# Altium schematic symbol library Maxim Amplifiers and Comparators.SchLib: 420 symbols (part 15 of 16)
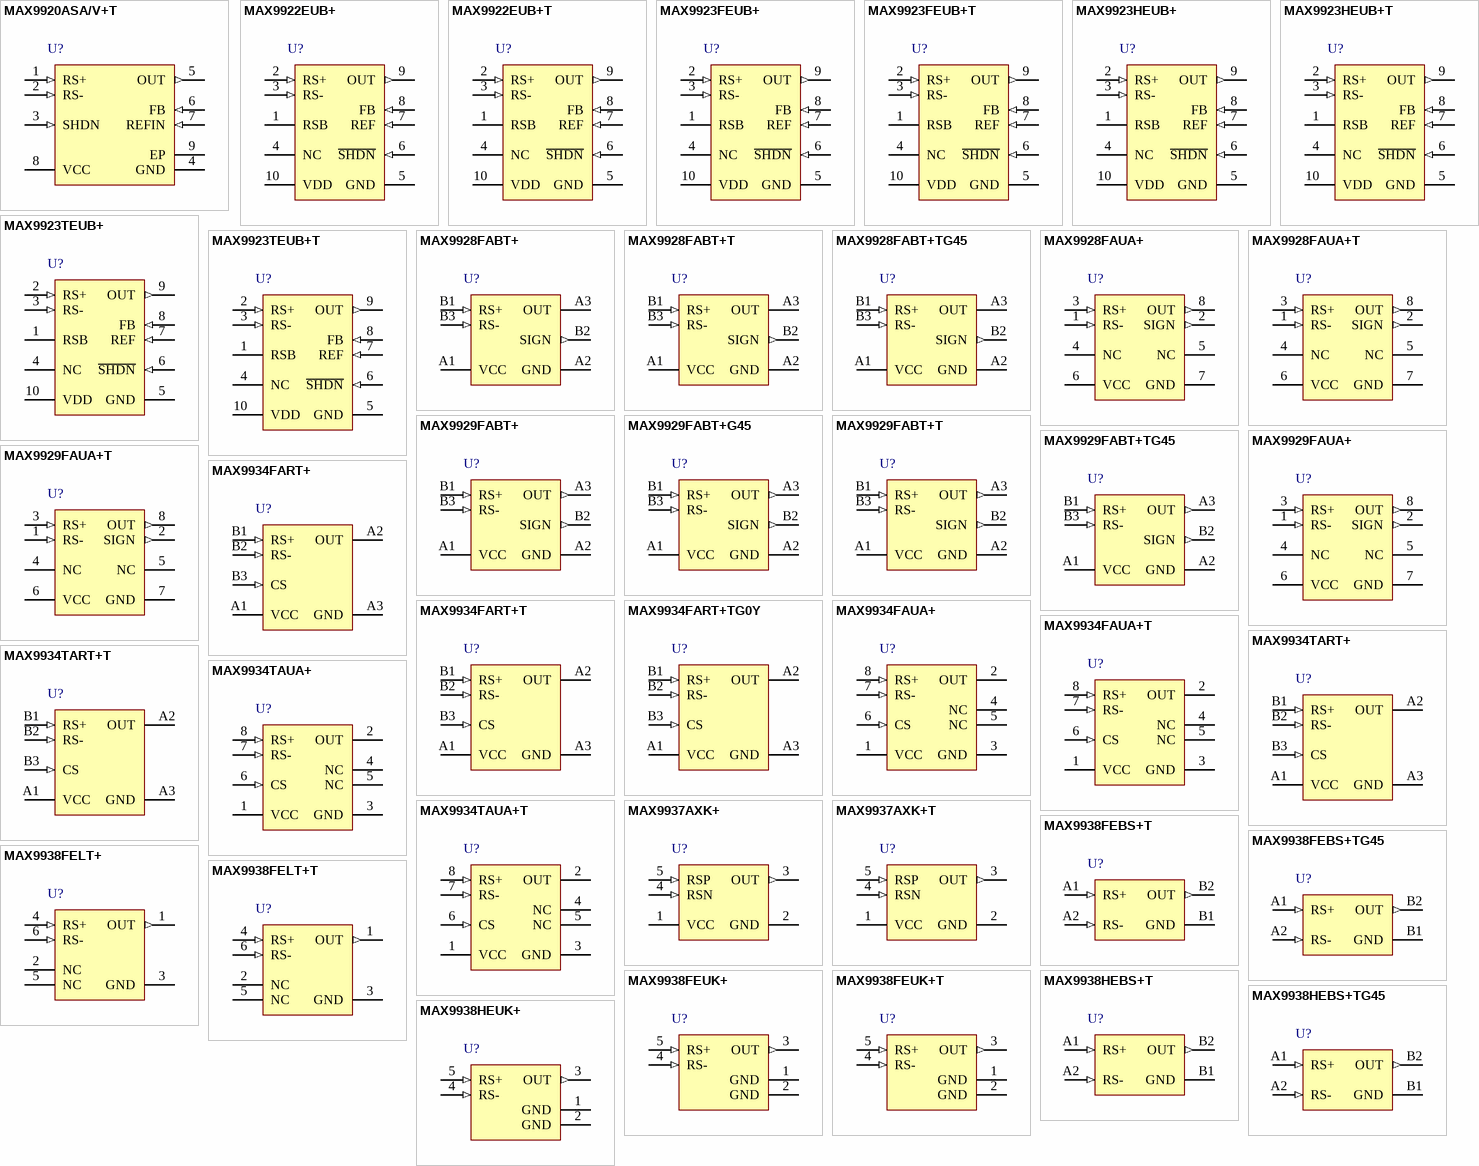
[diagram p24: symbols MAX9920ASA/V+T to MAX9938HEUK+]

## MAX9928FABT+
designator U?
-0.1 to 28 V Input Range, Micropower, Uni- / Bidirectional, Current-Sense Amplifier with Current Output, 5 uA / mV Gain, -40 to 125 degC, 6-Pin BGA (B6+1), Pb-Free, Tape and Reel; PartNumber: MAX9928FABT+; Bi-Dir. Curr. Sense: Yes; Gain: 5 uA/mV; DatasheetVersion: Rev. 3; PackageVersion: Rev. H, 09/2009; PackageReference: B6+1; PackageDescription: 6-Pin Ultra Chip-Scale Package, Body 1 x 1.52 mm, Pitch 0.5 mm; Supplier 1: Mouser; Supplier Part Number 1: N/A; Mounting Technology: Surface Mount; ComponentLink1Description: Manufacturer URL; ComponentLink1URL: http://www.maximintegrated.com/; ComponentLink2Description: Datasheet; ComponentLink2URL: http://datasheets.maximintegrated.com/en/ds/MAX9928F-MAX9929F.pdf; ComponentLink3Description: Package Specification; ComponentLink3URL: http://pdfserv.maximintegrated.com/package_dwgs/21-0097.PDF
footprint MAXM-B6+1 (BGA, 6-Balls, Body 1.52x1mm, Pitch 0.5mm)
pins: A1 VCC (power) "Supply Voltage Input. Bypass to GND with a 0.1uF capacitor.", A2 GND (power) "Circuit Ground", A3 OUT (hiz) "Current-Sense Output. MAX9928: Current output (IOUT is proportional to |VSENSE|). MAX9929: Voltage output (VOUT is proportional to |VSENSE|).", B1 RS+ (in) "Positive Current-Sense Input. Power-side connection to the external sense resistor.", B2 SIGN (out) "SIGN Output. Indicates polarity of VSENSE. SIGN = H indicates VRS+ > VRS-, SIGN = L indicates VRS+ < VRS-", B3 RS- (in) "Negative Current-Sense Input. Load-side connection for the external sense resistor."

## MAX9928FABT+T
designator U?
-0.1 to 28 V Input Range, Micropower, Uni- / Bidirectional, Current-Sense Amplifier with Current Output, 5 uA / mV Gain, -40 to 125 degC, 6-Pin BGA (B6+1), Pb-Free, Tape and Reel; PartNumber: MAX9928FABT+T; Bi-Dir. Curr. Sense: Yes; Gain: 5 uA/mV; DatasheetVersion: Rev. 3; PackageVersion: Rev. H, 09/2009; PackageReference: B6+1; PackageDescription: 6-Pin Ultra Chip-Scale Package, Body 1 x 1.52 mm, Pitch 0.5 mm; Supplier 1: Digi-Key; Supplier Part Number 1: MAX9928FABT+T-ND; Supplier 2: Mouser; Supplier Part Number 2: 700-MAX9928FABT+T; Mounting Technology: Surface Mount; ComponentLink1Description: Manufacturer URL; ComponentLink1URL: http://www.maximintegrated.com/; ComponentLink2Description: Datasheet; ComponentLink2URL: http://datasheets.maximintegrated.com/en/ds/MAX9928F-MAX9929F.pdf; ComponentLink3Description: Package Specification; ComponentLink3URL: http://pdfserv.maximintegrated.com/package_dwgs/21-0097.PDF
footprint MAXM-B6+1 (BGA, 6-Balls, Body 1.52x1mm, Pitch 0.5mm)
pins: A1 VCC (power) "Supply Voltage Input. Bypass to GND with a 0.1uF capacitor.", A2 GND (power) "Circuit Ground", A3 OUT (hiz) "Current-Sense Output. MAX9928: Current output (IOUT is proportional to |VSENSE|). MAX9929: Voltage output (VOUT is proportional to |VSENSE|).", B1 RS+ (in) "Positive Current-Sense Input. Power-side connection to the external sense resistor.", B2 SIGN (out) "SIGN Output. Indicates polarity of VSENSE. SIGN = H indicates VRS+ > VRS-, SIGN = L indicates VRS+ < VRS-", B3 RS- (in) "Negative Current-Sense Input. Load-side connection for the external sense resistor."

## MAX9928FABT+TG45
designator U?
-0.1 to 28 V Input Range, Micropower, Uni- / Bidirectional, Current-Sense Amplifier with Current Output, 5 uA / mV Gain, -40 to 125 degC, 6-Pin BGA (B6+1), Pb-Free, Tape and Reel; PartNumber: MAX9928FABT+TG45; Bi-Dir. Curr. Sense: Yes; Gain: 5 uA/mV; DatasheetVersion: Rev. 3; PackageVersion: Rev. H, 09/2009; PackageReference: B6+1; PackageDescription: 6-Pin Ultra Chip-Scale Package, Body 1 x 1.52 mm, Pitch 0.5 mm; Supplier 1: Digi-Key; Supplier Part Number 1: MAX9928FABT+TG45-ND; Supplier 2: Mouser; Supplier Part Number 2: 700-MAX9928FABT+TG45; Mounting Technology: Surface Mount; ComponentLink1Description: Manufacturer URL; ComponentLink1URL: http://www.maximintegrated.com/; ComponentLink2Description: Datasheet; ComponentLink2URL: http://datasheets.maximintegrated.com/en/ds/MAX9928F-MAX9929F.pdf; ComponentLink3Description: Package Specification; ComponentLink3URL: http://pdfserv.maximintegrated.com/package_dwgs/21-0097.PDF
footprint MAXM-B6+1 (BGA, 6-Balls, Body 1.52x1mm, Pitch 0.5mm)
pins: A1 VCC (power) "Supply Voltage Input. Bypass to GND with a 0.1uF capacitor.", A2 GND (power) "Circuit Ground", A3 OUT (hiz) "Current-Sense Output. MAX9928: Current output (IOUT is proportional to |VSENSE|). MAX9929: Voltage output (VOUT is proportional to |VSENSE|).", B1 RS+ (in) "Positive Current-Sense Input. Power-side connection to the external sense resistor.", B2 SIGN (out) "SIGN Output. Indicates polarity of VSENSE. SIGN = H indicates VRS+ > VRS-, SIGN = L indicates VRS+ < VRS-", B3 RS- (in) "Negative Current-Sense Input. Load-side connection for the external sense resistor."

## MAX9928FAUA+
designator U?
-0.1 to 28 V Input Range, Micropower, Uni- / Bidirectional, Current-Sense Amplifier with Current Output, 5 uA / mV Gain, -40 to 125 degC, 8-Pin SOP (U8+1), Pb-Free; PartNumber: MAX9928FAUA+; Bi-Dir. Curr. Sense: Yes; Gain: 5 uA/mV; DatasheetVersion: Rev. 3; PackageVersion: Rev. L, 08/2009; PackageReference: U8+1; PackageDescription: 8-Pin Micro-MAX, Thin Shrink Small-Outline (U8+1), Body 3 x 3 mm, Pitch 0.65 mm; Supplier 1: Digi-Key; Supplier Part Number 1: MAX9928FAUA+-ND; Supplier 2: Farnell; Supplier Part Number 2: 1673100; Supplier 3: Newark; Supplier Part Number 3: 26R6751; Supplier 4: Mouser; Supplier Part Number 4: 700-MAX9928FAUA; Mounting Technology: Surface Mount; Code_JEDEC: MO-187; ComponentLink1Description: Manufacturer URL; ComponentLink1URL: http://www.maximintegrated.com/; ComponentLink2Description: Datasheet; ComponentLink2URL: http://datasheets.maximintegrated.com/en/ds/MAX9928F-MAX9929F.pdf; ComponentLink3Description: Package Specification; ComponentLink3URL: http://pdfserv.maximintegrated.com/package_dwgs/21-0036.PDF
footprint MAXM-U8+1_N (SOP, 8-Leads, Body 3x3mm, Pitch 0.65mm, IPC Medium Density)
footprint MAXM-U8+1_L (SOP, 8-Leads, Body 3x3mm, Pitch 0.65mm, IPC High Density)
footprint MAXM-U8+1_M (SOP, 8-Leads, Body 3x3mm, Pitch 0.65mm, IPC Low Density)
pins: 1 RS- (in) "Negative Current-Sense Input. Load-side connection for the external sense resistor.", 2 SIGN (out) "SIGN Output. Indicates polarity of VSENSE. SIGN = H indicates VRS+ > VRS- SIGN = L indicates VRS+ < VRS-", 3 RS+ (in) "Positive Current-Sense Input. Power-side connection to the external sense resistor.", 4 NC "No Connection. Not internally connected.", 5 NC "No Connection. Not internally connected.", 6 VCC (power) "Supply Voltage Input. Bypass to GND with a 0.1µF capacitor.", 7 GND (power) "Circuit Ground", 8 OUT (out) "Current-Sense Output. MAX9928: Current output (IOUT is proportional to |VSENSE|). MAX9929: Voltage output (VOUT is proportional to |VSENSE|)."

## MAX9928FAUA+T
designator U?
-0.1 to 28 V Input Range, Micropower, Uni- / Bidirectional, Current-Sense Amplifier with Current Output, 5 uA / mV Gain, -40 to 125 degC, 8-Pin SOP (U8+1), Pb-Free, Tape and Reel; PartNumber: MAX9928FAUA+T; Bi-Dir. Curr. Sense: Yes; Gain: 5 uA/mV; DatasheetVersion: Rev. 3; PackageVersion: Rev. L, 08/2009; PackageReference: U8+1; PackageDescription: 8-Pin Micro-MAX, Thin Shrink Small-Outline (U8+1), Body 3 x 3 mm, Pitch 0.65 mm; Supplier 1: Digi-Key; Supplier Part Number 1: MAX9928FAUA+T-ND; Supplier 2: Mouser; Supplier Part Number 2: 700-MAX9928FAUA+T; Mounting Technology: Surface Mount; Code_JEDEC: MO-187; ComponentLink1Description: Manufacturer URL; ComponentLink1URL: http://www.maximintegrated.com/; ComponentLink2Description: Datasheet; ComponentLink2URL: http://datasheets.maximintegrated.com/en/ds/MAX9928F-MAX9929F.pdf; ComponentLink3Description: Package Specification; ComponentLink3URL: http://pdfserv.maximintegrated.com/package_dwgs/21-0036.PDF
footprint MAXM-U8+1_N (SOP, 8-Leads, Body 3x3mm, Pitch 0.65mm, IPC Medium Density)
footprint MAXM-U8+1_L (SOP, 8-Leads, Body 3x3mm, Pitch 0.65mm, IPC High Density)
footprint MAXM-U8+1_M (SOP, 8-Leads, Body 3x3mm, Pitch 0.65mm, IPC Low Density)
pins: 1 RS- (in) "Negative Current-Sense Input. Load-side connection for the external sense resistor.", 2 SIGN (out) "SIGN Output. Indicates polarity of VSENSE. SIGN = H indicates VRS+ > VRS- SIGN = L indicates VRS+ < VRS-", 3 RS+ (in) "Positive Current-Sense Input. Power-side connection to the external sense resistor.", 4 NC "No Connection. Not internally connected.", 5 NC "No Connection. Not internally connected.", 6 VCC (power) "Supply Voltage Input. Bypass to GND with a 0.1µF capacitor.", 7 GND (power) "Circuit Ground", 8 OUT (out) "Current-Sense Output. MAX9928: Current output (IOUT is proportional to |VSENSE|). MAX9929: Voltage output (VOUT is proportional to |VSENSE|)."

## MAX9929FABT+
designator U?
-0.1 to 28 V Input Range, Micropower, Uni- / Bidirectional, Current-Sense Amplifier with Voltage Output, 50 V / V Gain, -40 to 125 degC, 6-Pin BGA (B6+1), Pb-Free; PartNumber: MAX9929FABT+; Bi-Dir. Curr. Sense: Yes; Gain: 50 V/V; DatasheetVersion: Rev. 3; PackageVersion: Rev. H, 09/2009; PackageReference: B6+1; PackageDescription: 6-Pin Ultra Chip-Scale Package, Body 1 x 1.52 mm, Pitch 0.5 mm; Supplier 1: Mouser; Supplier Part Number 1: N/A; Mounting Technology: Surface Mount; ComponentLink1Description: Manufacturer URL; ComponentLink1URL: http://www.maximintegrated.com/; ComponentLink2Description: Datasheet; ComponentLink2URL: http://datasheets.maximintegrated.com/en/ds/MAX9928F-MAX9929F.pdf; ComponentLink3Description: Package Specification; ComponentLink3URL: http://pdfserv.maximintegrated.com/package_dwgs/21-0097.PDF
footprint MAXM-B6+1 (BGA, 6-Balls, Body 1.52x1mm, Pitch 0.5mm)
pins: A1 VCC (power) "Supply Voltage Input. Bypass to GND with a 0.1uF capacitor.", A2 GND (power) "Circuit Ground", A3 OUT (out) "Current-Sense Output. MAX9928: Current output (IOUT is proportional to |VSENSE|). MAX9929: Voltage output (VOUT is proportional to |VSENSE|).", B1 RS+ (in) "Positive Current-Sense Input. Power-side connection to the external sense resistor.", B2 SIGN (out) "SIGN Output. Indicates polarity of VSENSE. SIGN = H indicates VRS+ > VRS-, SIGN = L indicates VRS+ < VRS-", B3 RS- (in) "Negative Current-Sense Input. Load-side connection for the external sense resistor."

## MAX9929FABT+G45
designator U?
-0.1 to 28 V Input Range, Micropower, Uni- / Bidirectional, Current-Sense Amplifier with Voltage Output, 50 V / V Gain, -40 to 125 degC, 6-Pin BGA (B6+1), Pb-Free; PartNumber: MAX9929FABT+G45; Bi-Dir. Curr. Sense: Yes; Gain: 50 V/V; DatasheetVersion: Rev. 3; PackageVersion: Rev. H, 09/2009; PackageReference: B6+1; PackageDescription: 6-Pin Ultra Chip-Scale Package, Body 1 x 1.52 mm, Pitch 0.5 mm; Supplier 1: Mouser; Supplier Part Number 1: N/A; Mounting Technology: Surface Mount; ComponentLink1Description: Manufacturer URL; ComponentLink1URL: http://www.maximintegrated.com/; ComponentLink2Description: Datasheet; ComponentLink2URL: http://datasheets.maximintegrated.com/en/ds/MAX9928F-MAX9929F.pdf; ComponentLink3Description: Package Specification; ComponentLink3URL: http://pdfserv.maximintegrated.com/package_dwgs/21-0097.PDF
footprint MAXM-B6+1 (BGA, 6-Balls, Body 1.52x1mm, Pitch 0.5mm)
pins: A1 VCC (power) "Supply Voltage Input. Bypass to GND with a 0.1uF capacitor.", A2 GND (power) "Circuit Ground", A3 OUT (out) "Current-Sense Output. MAX9928: Current output (IOUT is proportional to |VSENSE|). MAX9929: Voltage output (VOUT is proportional to |VSENSE|).", B1 RS+ (in) "Positive Current-Sense Input. Power-side connection to the external sense resistor.", B2 SIGN (out) "SIGN Output. Indicates polarity of VSENSE. SIGN = H indicates VRS+ > VRS-, SIGN = L indicates VRS+ < VRS-", B3 RS- (in) "Negative Current-Sense Input. Load-side connection for the external sense resistor."

## MAX9929FABT+T
designator U?
-0.1 to 28 V Input Range, Micropower, Uni- / Bidirectional, Current-Sense Amplifier with Voltage Output, 50 V / V Gain, -40 to 125 degC, 6-Pin BGA (B6+1), Pb-Free, Tape and Reel; PartNumber: MAX9929FABT+T; Bi-Dir. Curr. Sense: Yes; Gain: 50 V/V; DatasheetVersion: Rev. 3; PackageVersion: Rev. H, 09/2009; PackageReference: B6+1; PackageDescription: 6-Pin Ultra Chip-Scale Package, Body 1 x 1.52 mm, Pitch 0.5 mm; Supplier 1: Digi-Key; Supplier Part Number 1: MAX9929FABT+TTR-ND; Supplier 2: Digi-Key; Supplier Part Number 2: MAX9929FABT+TCT-ND; Supplier 3: Digi-Key; Supplier Part Number 3: MAX9929FABT+TDKR-ND; Supplier 4: Mouser; Supplier Part Number 4: 700-MAX9929FABT+T; Mounting Technology: Surface Mount; ComponentLink1Description: Manufacturer URL; ComponentLink1URL: http://www.maximintegrated.com/; ComponentLink2Description: Datasheet; ComponentLink2URL: http://datasheets.maximintegrated.com/en/ds/MAX9928F-MAX9929F.pdf; ComponentLink3Description: Package Specification; ComponentLink3URL: http://pdfserv.maximintegrated.com/package_dwgs/21-0097.PDF
footprint MAXM-B6+1 (BGA, 6-Balls, Body 1.52x1mm, Pitch 0.5mm)
pins: A1 VCC (power) "Supply Voltage Input. Bypass to GND with a 0.1uF capacitor.", A2 GND (power) "Circuit Ground", A3 OUT (out) "Current-Sense Output. MAX9928: Current output (IOUT is proportional to |VSENSE|). MAX9929: Voltage output (VOUT is proportional to |VSENSE|).", B1 RS+ (in) "Positive Current-Sense Input. Power-side connection to the external sense resistor.", B2 SIGN (out) "SIGN Output. Indicates polarity of VSENSE. SIGN = H indicates VRS+ > VRS-, SIGN = L indicates VRS+ < VRS-", B3 RS- (in) "Negative Current-Sense Input. Load-side connection for the external sense resistor."

## MAX9929FABT+TG45
designator U?
-0.1 to 28 V Input Range, Micropower, Uni- / Bidirectional, Current-Sense Amplifier with Voltage Output, 50 V / V Gain, -40 to 125 degC, 6-Pin BGA (B6+1), Pb-Free, Tape and Reel; PartNumber: MAX9929FABT+TG45; Bi-Dir. Curr. Sense: Yes; Gain: 50 V/V; DatasheetVersion: Rev. 3; PackageVersion: Rev. H, 09/2009; PackageReference: B6+1; PackageDescription: 6-Pin Ultra Chip-Scale Package, Body 1 x 1.52 mm, Pitch 0.5 mm; Supplier 1: Mouser; Supplier Part Number 1: N/A; Mounting Technology: Surface Mount; ComponentLink1Description: Manufacturer URL; ComponentLink1URL: http://www.maximintegrated.com/; ComponentLink2Description: Datasheet; ComponentLink2URL: http://datasheets.maximintegrated.com/en/ds/MAX9928F-MAX9929F.pdf; ComponentLink3Description: Package Specification; ComponentLink3URL: http://pdfserv.maximintegrated.com/package_dwgs/21-0097.PDF
footprint MAXM-B6+1 (BGA, 6-Balls, Body 1.52x1mm, Pitch 0.5mm)
pins: A1 VCC (power) "Supply Voltage Input. Bypass to GND with a 0.1uF capacitor.", A2 GND (power) "Circuit Ground", A3 OUT (out) "Current-Sense Output. MAX9928: Current output (IOUT is proportional to |VSENSE|). MAX9929: Voltage output (VOUT is proportional to |VSENSE|).", B1 RS+ (in) "Positive Current-Sense Input. Power-side connection to the external sense resistor.", B2 SIGN (out) "SIGN Output. Indicates polarity of VSENSE. SIGN = H indicates VRS+ > VRS-, SIGN = L indicates VRS+ < VRS-", B3 RS- (in) "Negative Current-Sense Input. Load-side connection for the external sense resistor."

## MAX9929FAUA+
designator U?
-0.1 to 28 V Input Range, Micropower, Uni- / Bidirectional, Current-Sense Amplifier with Voltage Output, 50 V / V Gain, -40 to 125 degC, 8-Pin SOP (U8+1), Pb-Free; PartNumber: MAX9929FAUA+; Bi-Dir. Curr. Sense: Yes; Gain: 50 V/V; DatasheetVersion: Rev. 3; PackageVersion: Rev. L, 08/2009; PackageReference: U8+1; PackageDescription: 8-Pin Micro-MAX, Thin Shrink Small-Outline (U8+1), Body 3 x 3 mm, Pitch 0.65 mm; Supplier 1: Digi-Key; Supplier Part Number 1: MAX9929FAUA+-ND; Supplier 2: Farnell; Supplier Part Number 2: 1673101; Supplier 3: Newark; Supplier Part Number 3: 26R6752; Supplier 4: Mouser; Supplier Part Number 4: 700-MAX9929FAUA; Mounting Technology: Surface Mount; Code_JEDEC: MO-187; ComponentLink1Description: Manufacturer URL; ComponentLink1URL: http://www.maximintegrated.com/; ComponentLink2Description: Datasheet; ComponentLink2URL: http://datasheets.maximintegrated.com/en/ds/MAX9928F-MAX9929F.pdf; ComponentLink3Description: Package Specification; ComponentLink3URL: http://pdfserv.maximintegrated.com/package_dwgs/21-0036.PDF
footprint MAXM-U8+1_N (SOP, 8-Leads, Body 3x3mm, Pitch 0.65mm, IPC Medium Density)
footprint MAXM-U8+1_L (SOP, 8-Leads, Body 3x3mm, Pitch 0.65mm, IPC High Density)
footprint MAXM-U8+1_M (SOP, 8-Leads, Body 3x3mm, Pitch 0.65mm, IPC Low Density)
pins: 1 RS- (in) "Negative Current-Sense Input. Load-side connection for the external sense resistor.", 2 SIGN (out) "SIGN Output. Indicates polarity of VSENSE. SIGN = H indicates VRS+ > VRS- SIGN = L indicates VRS+ < VRS-", 3 RS+ (in) "Positive Current-Sense Input. Power-side connection to the external sense resistor.", 4 NC "No Connection. Not internally connected.", 5 NC "No Connection. Not internally connected.", 6 VCC (power) "Supply Voltage Input. Bypass to GND with a 0.1µF capacitor.", 7 GND (power) "Circuit Ground", 8 OUT (out) "Current-Sense Output. MAX9928: Current output (IOUT is proportional to |VSENSE|). MAX9929: Voltage output (VOUT is proportional to |VSENSE|)."

## MAX9929FAUA+T
designator U?
-0.1 to 28 V Input Range, Micropower, Uni- / Bidirectional, Current-Sense Amplifier with Voltage Output, 50 V / V Gain, -40 to 125 degC, 8-Pin SOP (U8+1), Pb-Free, Tape and Reel; PartNumber: MAX9929FAUA+T; Bi-Dir. Curr. Sense: Yes; Gain: 50 V/V; DatasheetVersion: Rev. 3; PackageVersion: Rev. L, 08/2009; PackageReference: U8+1; PackageDescription: 8-Pin Micro-MAX, Thin Shrink Small-Outline (U8+1), Body 3 x 3 mm, Pitch 0.65 mm; Supplier 1: Digi-Key; Supplier Part Number 1: MAX9929FAUA+T-ND; Supplier 2: Mouser; Supplier Part Number 2: 700-MAX9929FAUA+T; Mounting Technology: Surface Mount; Code_JEDEC: MO-187; ComponentLink1Description: Manufacturer URL; ComponentLink1URL: http://www.maximintegrated.com/; ComponentLink2Description: Datasheet; ComponentLink2URL: http://datasheets.maximintegrated.com/en/ds/MAX9928F-MAX9929F.pdf; ComponentLink3Description: Package Specification; ComponentLink3URL: http://pdfserv.maximintegrated.com/package_dwgs/21-0036.PDF
footprint MAXM-U8+1_N (SOP, 8-Leads, Body 3x3mm, Pitch 0.65mm, IPC Medium Density)
footprint MAXM-U8+1_L (SOP, 8-Leads, Body 3x3mm, Pitch 0.65mm, IPC High Density)
footprint MAXM-U8+1_M (SOP, 8-Leads, Body 3x3mm, Pitch 0.65mm, IPC Low Density)
pins: 1 RS- (in) "Negative Current-Sense Input. Load-side connection for the external sense resistor.", 2 SIGN (out) "SIGN Output. Indicates polarity of VSENSE. SIGN = H indicates VRS+ > VRS- SIGN = L indicates VRS+ < VRS-", 3 RS+ (in) "Positive Current-Sense Input. Power-side connection to the external sense resistor.", 4 NC "No Connection. Not internally connected.", 5 NC "No Connection. Not internally connected.", 6 VCC (power) "Supply Voltage Input. Bypass to GND with a 0.1µF capacitor.", 7 GND (power) "Circuit Ground", 8 OUT (out) "Current-Sense Output. MAX9928: Current output (IOUT is proportional to |VSENSE|). MAX9929: Voltage output (VOUT is proportional to |VSENSE|)."

## MAX9934FART+
designator U?
High-Precision, Low-Voltage, Current-Sense Amplifier with Current Output and Chip Select for Multiplexing, 5 uA / mV Gain, -40 to 125 degC, 6-Pin BGA (R61A1+1), Pb-Free; PartNumber: MAX9934FART+; Bi-Dir. Curr. Sense: Yes; Gain: 5 uA/mV, 25 uA/mV; Industry Qualified: Automotive - AECQ100, Automotive - General; DatasheetVersion: Rev. 2; PackageVersion: Rev. A, 06/2008; PackageReference: R61A1+1; PackageDescription: 6-Pin Ultra Chip-Scale Package, Body 1 x 1.52 mm, Pitch 0.5 mm; Supplier 1: Mouser; Supplier Part Number 1: N/A; Mounting Technology: Surface Mount; ComponentLink1Description: Manufacturer URL; ComponentLink1URL: http://www.maximintegrated.com/; ComponentLink2Description: Datasheet; ComponentLink2URL: http://datasheets.maximintegrated.com/en/ds/MAX9934.pdf; ComponentLink3Description: Package Specification; ComponentLink3URL: http://pdfserv.maximintegrated.com/package_dwgs/21-0228.PDF
footprint MAXM-R61A1+1 (BGA, 6-Balls, Body 1.52x1mm, Pitch 0.5mm)
pins: A1 VCC (power) "Power Supply", A2 OUT (hiz) "Current Output. OUT provides an output current proportional to input VSENSE. Connect an external resistor (ROUT) from OUT to GND for unidirectional sensing or to an external reference voltage for bidirectional sensing.", A3 GND (power) "Ground", B1 RS+ (in) "Sense Resistor Power Side Connection", B2 RS- (in) "Sense Resistor Load Side Connection", B3 CS (in) "Chip-Select Input. Drive CS high to enable OUT, drive CS low to put OUT in a high-impedance state."

## MAX9934FART+T
designator U?
High-Precision, Low-Voltage, Current-Sense Amplifier with Current Output and Chip Select for Multiplexing, 5 uA / mV Gain, -40 to 125 degC, 6-Pin BGA (R61A1+1), Pb-Free, Tape and Reel; Generic Part Number: MAX9934; PartNumber: MAX9934FART+T; Bi-Dir. Curr. Sense: Yes; Gain: 5 uA/mV, 25 uA/mV; Industry Qualified: Automotive - AECQ100, Automotive - General; DatasheetVersion: Rev. 2; PackageVersion: Rev. A, 06/2008; PackageReference: R61A1+1; PackageDescription: 6-Pin Ultra Chip-Scale Package, Body 1 x 1.52 mm, Pitch 0.5 mm; Supplier 1: Digi-Key; Supplier Part Number 1: MAX9934FART+T-ND; Supplier 2: Mouser; Supplier Part Number 2: 700-MAX9934FART+T; Packing: Tape and Reel; RoHS: Pb-Free; Mounting Technology: Surface Mount; ComponentLink1Description: Manufacturer URL; ComponentLink1URL: http://www.maximintegrated.com/; ComponentLink2Description: Datasheet; ComponentLink2URL: http://datasheets.maximintegrated.com/en/ds/MAX9934.pdf; ComponentLink3Description: Package Specification; ComponentLink3URL: http://pdfserv.maximintegrated.com/package_dwgs/21-0228.PDF
footprint MAXM-R61A1+1 (BGA, 6-Balls, Body 1.52x1mm, Pitch 0.5mm)
pins: A1 VCC (power) "Power Supply", A2 OUT (hiz) "Current Output. OUT provides an output current proportional to input VSENSE. Connect an external resistor (ROUT) from OUT to GND for unidirectional sensing or to an external reference voltage for bidirectional sensing.", A3 GND (power) "Ground", B1 RS+ (in) "Sense Resistor Power Side Connection", B2 RS- (in) "Sense Resistor Load Side Connection", B3 CS (in) "Chip-Select Input. Drive CS high to enable OUT, drive CS low to put OUT in a high-impedance state."

## MAX9934FART+TG0Y
designator U?
High-Precision, Low-Voltage, Current-Sense Amplifier with Current Output and Chip Select for Multiplexing, 5 uA / mV Gain, -40 to 125 degC, 6-Pin BGA (R61A1+1), Pb-Free, Tape and Reel; Generic Part Number: MAX9934; PartNumber: MAX9934FART+TG0Y; Bi-Dir. Curr. Sense: Yes; Gain: 5 uA/mV, 25 uA/mV; Industry Qualified: Automotive - AECQ100, Automotive - General; DatasheetVersion: Rev. 2; PackageVersion: Rev. A, 06/2008; PackageReference: R61A1+1; PackageDescription: 6-Pin Ultra Chip-Scale Package, Body 1 x 1.52 mm, Pitch 0.5 mm; Supplier 1: Mouser; Supplier Part Number 1: N/A; Packing: Tape and Reel; RoHS: Pb-Free; Mounting Technology: Surface Mount; ComponentLink1Description: Manufacturer URL; ComponentLink1URL: http://www.maximintegrated.com/; ComponentLink2Description: Datasheet; ComponentLink2URL: http://datasheets.maximintegrated.com/en/ds/MAX9934.pdf; ComponentLink3Description: Package Specification; ComponentLink3URL: http://pdfserv.maximintegrated.com/package_dwgs/21-0228.PDF
footprint MAXM-R61A1+1 (BGA, 6-Balls, Body 1.52x1mm, Pitch 0.5mm)
pins: A1 VCC (power) "Power Supply", A2 OUT (hiz) "Current Output. OUT provides an output current proportional to input VSENSE. Connect an external resistor (ROUT) from OUT to GND for unidirectional sensing or to an external reference voltage for bidirectional sensing.", A3 GND (power) "Ground", B1 RS+ (in) "Sense Resistor Power Side Connection", B2 RS- (in) "Sense Resistor Load Side Connection", B3 CS (in) "Chip-Select Input. Drive CS high to enable OUT, drive CS low to put OUT in a high-impedance state."

## MAX9934FAUA+
designator U?
High-Precision, Low-Voltage, Current-Sense Amplifier with Current Output and Chip Select for Multiplexing, 5 uA / mV Gain, -40 to 125 degC, 8-Pin SOP (U8+1), Pb-Free; PartNumber: MAX9934FAUA+; Bi-Dir. Curr. Sense: Yes; Gain: 5 uA/mV, 25 uA/mV; Industry Qualified: Automotive - AECQ100, Automotive - General; DatasheetVersion: Rev. 2; PackageVersion: Rev. L, 08/2009; PackageReference: U8+1; PackageDescription: 8-Pin Micro-MAX, Thin Shrink Small-Outline (U8+1), Body 3 x 3 mm, Pitch 0.65 mm; Supplier 1: Digi-Key; Supplier Part Number 1: MAX9934FAUA+-ND; Supplier 2: Mouser; Supplier Part Number 2: 700-MAX9934FAUA; Mounting Technology: Surface Mount; Code_JEDEC: MO-187; ComponentLink1Description: Manufacturer URL; ComponentLink1URL: http://www.maximintegrated.com/; ComponentLink2Description: Datasheet; ComponentLink2URL: http://datasheets.maximintegrated.com/en/ds/MAX9934.pdf; ComponentLink3Description: Package Specification; ComponentLink3URL: http://pdfserv.maximintegrated.com/package_dwgs/21-0036.PDF
footprint MAXM-U8+1_N (SOP, 8-Leads, Body 3x3mm, Pitch 0.65mm, IPC Medium Density)
footprint MAXM-U8+1_L (SOP, 8-Leads, Body 3x3mm, Pitch 0.65mm, IPC High Density)
footprint MAXM-U8+1_M (SOP, 8-Leads, Body 3x3mm, Pitch 0.65mm, IPC Low Density)
pins: 1 VCC (power) "Power Supply", 2 OUT (hiz) "Current Output. OUT provides an output current proportional to input VSENSE. Connect an external resistor (ROUT) from OUT to GND for unidirectional sensing or to an external reference voltage for bidirectional sensing.", 3 GND (power) "Ground", 4 NC "No Connection. Not internally connected.", 5 NC "No Connection. Not internally connected.", 6 CS (in) "Chip-Select Input. Drive CS high to enable OUT, drive CS low to put OUT in a high-impedance state.", 7 RS- (in) "Sense Resistor Load Side Connection", 8 RS+ (in) "Sense Resistor Power Side Connection"

## MAX9934FAUA+T
designator U?
High-Precision, Low-Voltage, Current-Sense Amplifier with Current Output and Chip Select for Multiplexing, 5 uA / mV Gain, -40 to 125 degC, 8-Pin SOP (U8+1), Pb-Free, Tape and Reel; PartNumber: MAX9934FAUA+T; Bi-Dir. Curr. Sense: Yes; Gain: 5 uA/mV, 25 uA/mV; Industry Qualified: Automotive - AECQ100, Automotive - General; DatasheetVersion: Rev. 2; PackageVersion: Rev. L, 08/2009; PackageReference: U8+1; PackageDescription: 8-Pin Micro-MAX, Thin Shrink Small-Outline (U8+1), Body 3 x 3 mm, Pitch 0.65 mm; Supplier 1: Digi-Key; Supplier Part Number 1: MAX9934FAUA+T-ND; Supplier 2: Mouser; Supplier Part Number 2: 700-MAX9934FAUA+T; Mounting Technology: Surface Mount; Code_JEDEC: MO-187; ComponentLink1Description: Manufacturer URL; ComponentLink1URL: http://www.maximintegrated.com/; ComponentLink2Description: Datasheet; ComponentLink2URL: http://datasheets.maximintegrated.com/en/ds/MAX9934.pdf; ComponentLink3Description: Package Specification; ComponentLink3URL: http://pdfserv.maximintegrated.com/package_dwgs/21-0036.PDF
footprint MAXM-U8+1_N (SOP, 8-Leads, Body 3x3mm, Pitch 0.65mm, IPC Medium Density)
footprint MAXM-U8+1_L (SOP, 8-Leads, Body 3x3mm, Pitch 0.65mm, IPC High Density)
footprint MAXM-U8+1_M (SOP, 8-Leads, Body 3x3mm, Pitch 0.65mm, IPC Low Density)
pins: 1 VCC (power) "Power Supply", 2 OUT (hiz) "Current Output. OUT provides an output current proportional to input VSENSE. Connect an external resistor (ROUT) from OUT to GND for unidirectional sensing or to an external reference voltage for bidirectional sensing.", 3 GND (power) "Ground", 4 NC "No Connection. Not internally connected.", 5 NC "No Connection. Not internally connected.", 6 CS (in) "Chip-Select Input. Drive CS high to enable OUT, drive CS low to put OUT in a high-impedance state.", 7 RS- (in) "Sense Resistor Load Side Connection", 8 RS+ (in) "Sense Resistor Power Side Connection"

## MAX9934TART+
designator U?
High-Precision, Low-Voltage, Current-Sense Amplifier with Current Output and Chip Select for Multiplexing, 25 uA / mV Gain, -40 to 125 degC, 6-Pin BGA (R61A1+1), Pb-Free; PartNumber: MAX9934TART+; Bi-Dir. Curr. Sense: Yes; Gain: 5 uA/mV, 25 uA/mV; Industry Qualified: Automotive - AECQ100, Automotive - General; DatasheetVersion: Rev. 2; PackageVersion: Rev. A, 06/2008; PackageReference: R61A1+1; PackageDescription: 6-Pin Ultra Chip-Scale Package, Body 1 x 1.52 mm, Pitch 0.5 mm; Supplier 1: Mouser; Supplier Part Number 1: N/A; Mounting Technology: Surface Mount; ComponentLink1Description: Manufacturer URL; ComponentLink1URL: http://www.maximintegrated.com/; ComponentLink2Description: Datasheet; ComponentLink2URL: http://datasheets.maximintegrated.com/en/ds/MAX9934.pdf; ComponentLink3Description: Package Specification; ComponentLink3URL: http://pdfserv.maximintegrated.com/package_dwgs/21-0228.PDF
footprint MAXM-R61A1+1 (BGA, 6-Balls, Body 1.52x1mm, Pitch 0.5mm)
pins: A1 VCC (power) "Power Supply", A2 OUT (hiz) "Current Output. OUT provides an output current proportional to input VSENSE. Connect an external resistor (ROUT) from OUT to GND for unidirectional sensing or to an external reference voltage for bidirectional sensing.", A3 GND (power) "Ground", B1 RS+ (in) "Sense Resistor Power Side Connection", B2 RS- (in) "Sense Resistor Load Side Connection", B3 CS (in) "Chip-Select Input. Drive CS high to enable OUT, drive CS low to put OUT in a high-impedance state."

## MAX9934TART+T
designator U?
High-Precision, Low-Voltage, Current-Sense Amplifier with Current Output and Chip Select for Multiplexing, 25 uA / mV Gain, -40 to 125 degC, 6-Pin BGA (R61A1+1), Pb-Free, Tape and Reel; PartNumber: MAX9934TART+T; Bi-Dir. Curr. Sense: Yes; Gain: 5 uA/mV, 25 uA/mV; Industry Qualified: Automotive - AECQ100, Automotive - General; DatasheetVersion: Rev. 2; PackageVersion: Rev. A, 06/2008; PackageReference: R61A1+1; PackageDescription: 6-Pin Ultra Chip-Scale Package, Body 1 x 1.52 mm, Pitch 0.5 mm; Supplier 1: Digi-Key; Supplier Part Number 1: MAX9934TART+T-ND; Supplier 2: Mouser; Supplier Part Number 2: 700-MAX9934TART+T; Mounting Technology: Surface Mount; ComponentLink1Description: Manufacturer URL; ComponentLink1URL: http://www.maximintegrated.com/; ComponentLink2Description: Datasheet; ComponentLink2URL: http://datasheets.maximintegrated.com/en/ds/MAX9934.pdf; ComponentLink3Description: Package Specification; ComponentLink3URL: http://pdfserv.maximintegrated.com/package_dwgs/21-0228.PDF
footprint MAXM-R61A1+1 (BGA, 6-Balls, Body 1.52x1mm, Pitch 0.5mm)
pins: A1 VCC (power) "Power Supply", A2 OUT (hiz) "Current Output. OUT provides an output current proportional to input VSENSE. Connect an external resistor (ROUT) from OUT to GND for unidirectional sensing or to an external reference voltage for bidirectional sensing.", A3 GND (power) "Ground", B1 RS+ (in) "Sense Resistor Power Side Connection", B2 RS- (in) "Sense Resistor Load Side Connection", B3 CS (in) "Chip-Select Input. Drive CS high to enable OUT, drive CS low to put OUT in a high-impedance state."

## MAX9934TAUA+
designator U?
High-Precision, Low-Voltage, Current-Sense Amplifier with Current Output and Chip Select for Multiplexing, 25 uA / mV Gain, -40 to 125 degC, 8-Pin SOP (U8+1), Pb-Free; PartNumber: MAX9934TAUA+; Bi-Dir. Curr. Sense: Yes; Gain: 5 uA/mV, 25 uA/mV; Industry Qualified: Automotive - AECQ100, Automotive - General; DatasheetVersion: Rev. 2; PackageVersion: Rev. L, 08/2009; PackageReference: U8+1; PackageDescription: 8-Pin Micro-MAX, Thin Shrink Small-Outline (U8+1), Body 3 x 3 mm, Pitch 0.65 mm; Supplier 1: Digi-Key; Supplier Part Number 1: MAX9934TAUA+-ND; Supplier 2: Mouser; Supplier Part Number 2: 700-MAX9934TAUA; Mounting Technology: Surface Mount; Code_JEDEC: MO-187; ComponentLink1Description: Manufacturer URL; ComponentLink1URL: http://www.maximintegrated.com/; ComponentLink2Description: Datasheet; ComponentLink2URL: http://datasheets.maximintegrated.com/en/ds/MAX9934.pdf; ComponentLink3Description: Package Specification; ComponentLink3URL: http://pdfserv.maximintegrated.com/package_dwgs/21-0036.PDF
footprint MAXM-U8+1_N (SOP, 8-Leads, Body 3x3mm, Pitch 0.65mm, IPC Medium Density)
footprint MAXM-U8+1_L (SOP, 8-Leads, Body 3x3mm, Pitch 0.65mm, IPC High Density)
footprint MAXM-U8+1_M (SOP, 8-Leads, Body 3x3mm, Pitch 0.65mm, IPC Low Density)
pins: 1 VCC (power) "Power Supply", 2 OUT (hiz) "Current Output. OUT provides an output current proportional to input VSENSE. Connect an external resistor (ROUT) from OUT to GND for unidirectional sensing or to an external reference voltage for bidirectional sensing.", 3 GND (power) "Ground", 4 NC "No Connection. Not internally connected.", 5 NC "No Connection. Not internally connected.", 6 CS (in) "Chip-Select Input. Drive CS high to enable OUT, drive CS low to put OUT in a high-impedance state.", 7 RS- (in) "Sense Resistor Load Side Connection", 8 RS+ (in) "Sense Resistor Power Side Connection"

## MAX9934TAUA+T
designator U?
High-Precision, Low-Voltage, Current-Sense Amplifier with Current Output and Chip Select for Multiplexing, 25 uA / mV Gain, -40 to 125 degC, 8-Pin SOP (U8+1), Pb-Free, Tape and Reel; PartNumber: MAX9934TAUA+T; Bi-Dir. Curr. Sense: Yes; Gain: 5 uA/mV, 25 uA/mV; Industry Qualified: Automotive - AECQ100, Automotive - General; DatasheetVersion: Rev. 2; PackageVersion: Rev. L, 08/2009; PackageReference: U8+1; PackageDescription: 8-Pin Micro-MAX, Thin Shrink Small-Outline (U8+1), Body 3 x 3 mm, Pitch 0.65 mm; Supplier 1: Digi-Key; Supplier Part Number 1: MAX9934TAUA+T-ND; Supplier 2: Mouser; Supplier Part Number 2: 700-MAX9934TAUA+T; Mounting Technology: Surface Mount; Code_JEDEC: MO-187; ComponentLink1Description: Manufacturer URL; ComponentLink1URL: http://www.maximintegrated.com/; ComponentLink2Description: Datasheet; ComponentLink2URL: http://datasheets.maximintegrated.com/en/ds/MAX9934.pdf; ComponentLink3Description: Package Specification; ComponentLink3URL: http://pdfserv.maximintegrated.com/package_dwgs/21-0036.PDF
footprint MAXM-U8+1_N (SOP, 8-Leads, Body 3x3mm, Pitch 0.65mm, IPC Medium Density)
footprint MAXM-U8+1_L (SOP, 8-Leads, Body 3x3mm, Pitch 0.65mm, IPC High Density)
footprint MAXM-U8+1_M (SOP, 8-Leads, Body 3x3mm, Pitch 0.65mm, IPC Low Density)
pins: 1 VCC (power) "Power Supply", 2 OUT (hiz) "Current Output. OUT provides an output current proportional to input VSENSE. Connect an external resistor (ROUT) from OUT to GND for unidirectional sensing or to an external reference voltage for bidirectional sensing.", 3 GND (power) "Ground", 4 NC "No Connection. Not internally connected.", 5 NC "No Connection. Not internally connected.", 6 CS (in) "Chip-Select Input. Drive CS high to enable OUT, drive CS low to put OUT in a high-impedance state.", 7 RS- (in) "Sense Resistor Load Side Connection", 8 RS+ (in) "Sense Resistor Power Side Connection"

## MAX9937AXK+
designator U?
Automotive Current-Sense Amplifier with Reverse-Battery Protection, Adjustable Gain, -40 to 125 degC, 5-Pin SOT23 (X5+1), Pb-Free; PartNumber: MAX9937AXK+; Bi-Dir. Curr. Sense: No; Gain: Adj.; DatasheetVersion: Rev. 0; PackageVersion: Rev. F, 06/2011; PackageReference: X5+1; PackageDescription: 5-Pin SC70 Transistor Package (X5+1), Body 2 x 1.25 mm, Pitch 0.65 mm; Supplier 1: Mouser; Supplier Part Number 1: N/A; Mounting Technology: Surface Mount; Code_JEDEC: MO-203; ComponentLink1Description: Manufacturer URL; ComponentLink1URL: http://www.maximintegrated.com/; ComponentLink2Description: Datasheet; ComponentLink2URL: http://datasheets.maximintegrated.com/en/ds/MAX9937.pdf; ComponentLink3Description: Package Specification; ComponentLink3URL: http://pdfserv.maximintegrated.com/package_dwgs/21-0076.PDF
footprint MAXM-X5+1_N (SOT23, 5-Leads, Body 2x1.25mm, Pitch 0.65mm, IPC Medium Density)
footprint MAXM-X5+1_L (SOT23, 5-Leads, Body 2x1.25mm, Pitch 0.65mm, IPC High Density)
footprint MAXM-X5+1_M (SOT23, 5-Leads, Body 2x1.25mm, Pitch 0.65mm, IPC Low Density)
pins: 1 VCC (power) "Power Supply. Bypass to GND with a 0.1uF capacitor.", 2 GND (power) "Ground", 3 OUT (out) "Current Output", 4 RSN (in) "Load-Side Connection Through External RRSN Resistor", 5 RSP (in) "Supply-Side Connection Through External RRSP Resistor"

## MAX9937AXK+T
designator U?
Automotive Current-Sense Amplifier with Reverse-Battery Protection, Adjustable Gain, -40 to 125 degC, 5-Pin SOT23 (X5+1), Pb-Free, Tape and Reel; PartNumber: MAX9937AXK+T; Bi-Dir. Curr. Sense: No; Gain: Adj.; DatasheetVersion: Rev. 0; PackageVersion: Rev. F, 06/2011; PackageReference: X5+1; PackageDescription: 5-Pin SC70 Transistor Package (X5+1), Body 2 x 1.25 mm, Pitch 0.65 mm; Supplier 1: Digi-Key; Supplier Part Number 1: MAX9937AXK+TTR-ND; Supplier 2: Digi-Key; Supplier Part Number 2: MAX9937AXK+TCT-ND; Supplier 3: Digi-Key; Supplier Part Number 3: MAX9937AXK+TDKR-ND; Supplier 4: Mouser; Supplier Part Number 4: 700-MAX9937AXK+T; Mounting Technology: Surface Mount; Code_JEDEC: MO-203; ComponentLink1Description: Manufacturer URL; ComponentLink1URL: http://www.maximintegrated.com/; ComponentLink2Description: Datasheet; ComponentLink2URL: http://datasheets.maximintegrated.com/en/ds/MAX9937.pdf; ComponentLink3Description: Package Specification; ComponentLink3URL: http://pdfserv.maximintegrated.com/package_dwgs/21-0076.PDF
footprint MAXM-X5+1_N (SOT23, 5-Leads, Body 2x1.25mm, Pitch 0.65mm, IPC Medium Density)
footprint MAXM-X5+1_L (SOT23, 5-Leads, Body 2x1.25mm, Pitch 0.65mm, IPC High Density)
footprint MAXM-X5+1_M (SOT23, 5-Leads, Body 2x1.25mm, Pitch 0.65mm, IPC Low Density)
pins: 1 VCC (power) "Power Supply. Bypass to GND with a 0.1uF capacitor.", 2 GND (power) "Ground", 3 OUT (out) "Current Output", 4 RSN (in) "Load-Side Connection Through External RRSN Resistor", 5 RSP (in) "Supply-Side Connection Through External RRSP Resistor"

## MAX9938FEBS+T
designator U?
1 uA, 4-Bump, Precision Current-Sense Amplifier, 50 V / V Gain, -40 to 85 degC, 4-Pin BGA (B4+1), Pb-Free, Tape and Reel; PartNumber: MAX9938FEBS+T; Bi-Dir. Curr. Sense: No; Gain: 25 V/V, 50 V/V ,100 V/V ,200 V/V; DatasheetVersion: Rev. 6; PackageVersion: Rev. I, 03/2011; PackageReference: B4+1; PackageDescription: 4-Pin Ultra Chip-Scale Package, Body 1 x 1 mm, Pitch 0.5 mm; Supplier 1: Digi-Key; Supplier Part Number 1: MAX9938FEBS+T-ND; Supplier 2: Mouser; Supplier Part Number 2: 700-MAX9938FEBS+T; Mounting Technology: Surface Mount; ComponentLink1Description: Manufacturer URL; ComponentLink1URL: http://www.maximintegrated.com/; ComponentLink2Description: Datasheet; ComponentLink2URL: http://datasheets.maximintegrated.com/en/ds/MAX9938.pdf; ComponentLink3Description: Package Specification; ComponentLink3URL: http://pdfserv.maximintegrated.com/package_dwgs/21-0117.PDF
footprint MAXM-B4+1 (BGA, 4-Balls, Body 1x1mm, Pitch 0.5mm)
pins: A1 RS+ (in) "External Sense Resistor Power-Side Connection", A2 RS- (in) "External Sense Resistor Load-Side Connection", B1 GND (power) "Ground", B2 OUT (out) "Output Voltage. VOUT is proportional to VSENSE = VRS+ - VRS-."

## MAX9938FEBS+TG45
designator U?
1 uA, 4-Bump, Precision Current-Sense Amplifier, 50 V / V Gain, -40 to 85 degC, 4-Pin BGA (B4+1), Pb-Free, Tape and Reel; PartNumber: MAX9938FEBS+TG45; Bi-Dir. Curr. Sense: No; Gain: 25 V/V, 50 V/V ,100 V/V ,200 V/V; DatasheetVersion: Rev. 6; PackageVersion: Rev. I, 03/2011; PackageReference: B4+1; PackageDescription: 4-Pin Ultra Chip-Scale Package, Body 1 x 1 mm, Pitch 0.5 mm; Supplier 1: Digi-Key; Supplier Part Number 1: MAX9938FEBS+TG45-ND; Supplier 2: Mouser; Supplier Part Number 2: 700-MAX9938FEBS+TG45; Mounting Technology: Surface Mount; ComponentLink1Description: Manufacturer URL; ComponentLink1URL: http://www.maximintegrated.com/; ComponentLink2Description: Datasheet; ComponentLink2URL: http://datasheets.maximintegrated.com/en/ds/MAX9938.pdf; ComponentLink3Description: Package Specification; ComponentLink3URL: http://pdfserv.maximintegrated.com/package_dwgs/21-0117.PDF
footprint MAXM-B4+1 (BGA, 4-Balls, Body 1x1mm, Pitch 0.5mm)
pins: A1 RS+ (in) "External Sense Resistor Power-Side Connection", A2 RS- (in) "External Sense Resistor Load-Side Connection", B1 GND (power) "Ground", B2 OUT (out) "Output Voltage. VOUT is proportional to VSENSE = VRS+ - VRS-."

## MAX9938FELT+
designator U?
1 uA, 4-Bump, Precision Current-Sense Amplifier, 50 V / V Gain, -40 to 85 degC, 8-Pin SON (L622+1), Pb-Free; PartNumber: MAX9938FELT+; Bi-Dir. Curr. Sense: No; Gain: 25 V/V, 50 V/V ,100 V/V ,200 V/V; DatasheetVersion: Rev. 6; PackageVersion: Rev. C, 09/2010; PackageReference: L622+1; PackageDescription: 6-Pin Micro Dual Flatpack No Lead, Body 2 x 2 mm, Pitch 0.65 mm; Supplier 1: Mouser; Supplier Part Number 1: N/A; Mounting Technology: Surface Mount; Code_JEDEC: MO-252; ComponentLink1Description: Manufacturer URL; ComponentLink1URL: http://www.maximintegrated.com/; ComponentLink2Description: Datasheet; ComponentLink2URL: http://datasheets.maximintegrated.com/en/ds/MAX9938.pdf; ComponentLink3Description: Package Specification; ComponentLink3URL: http://pdfserv.maximintegrated.com/package_dwgs/21-0164.PDF
footprint MAXM-L622+1_V (SON, 6-Leads, Body 2x2mm, Pitch 0.65mm)
pins: 1 OUT (out) "Output Voltage. VOUT is proportional to VSENSE = VRS+ - VRS-.", 2 NC "No Connection. Not internally connected.", 3 GND (power) "Ground", 4 RS+ (in) "External Sense Resistor Power-Side Connection", 5 NC "No Connection. Not internally connected.", 6 RS- (in) "External Sense Resistor Load-Side Connection"

## MAX9938FELT+T
designator U?
1 uA, 4-Bump, Precision Current-Sense Amplifier, 50 V / V Gain, -40 to 85 degC, 8-Pin SON (L622+1), Pb-Free, Tape and Reel; PartNumber: MAX9938FELT+T; Bi-Dir. Curr. Sense: No; Gain: 25 V/V, 50 V/V ,100 V/V ,200 V/V; DatasheetVersion: Rev. 6; PackageVersion: Rev. C, 09/2010; PackageReference: L622+1; PackageDescription: 6-Pin Micro Dual Flatpack No Lead, Body 2 x 2 mm, Pitch 0.65 mm; Supplier 1: Digi-Key; Supplier Part Number 1: MAX9938FELT+T-ND; Supplier 2: Mouser; Supplier Part Number 2: 700-MAX9938FELT+T; Mounting Technology: Surface Mount; Code_JEDEC: MO-252; ComponentLink1Description: Manufacturer URL; ComponentLink1URL: http://www.maximintegrated.com/; ComponentLink2Description: Datasheet; ComponentLink2URL: http://datasheets.maximintegrated.com/en/ds/MAX9938.pdf; ComponentLink3Description: Package Specification; ComponentLink3URL: http://pdfserv.maximintegrated.com/package_dwgs/21-0164.PDF
footprint MAXM-L622+1_V (SON, 6-Leads, Body 2x2mm, Pitch 0.65mm)
pins: 1 OUT (out) "Output Voltage. VOUT is proportional to VSENSE = VRS+ - VRS-.", 2 NC "No Connection. Not internally connected.", 3 GND (power) "Ground", 4 RS+ (in) "External Sense Resistor Power-Side Connection", 5 NC "No Connection. Not internally connected.", 6 RS- (in) "External Sense Resistor Load-Side Connection"

## MAX9938FEUK+
designator U?
1 uA, 4-Bump, Precision Current-Sense Amplifier, 50 V / V Gain, -40 to 85 degC, 5-Pin SOT23 (U5+2), Pb-Free; PartNumber: MAX9938FEUK+; Bi-Dir. Curr. Sense: No; Gain: 25 V/V, 50 V/V ,100 V/V ,200 V/V; DatasheetVersion: Rev. 6; PackageVersion: Rev. G, 04/2011; PackageReference: U5+2; PackageDescription: 5-Pin Small-Outline Transistor Package, Body 1.625 x 2.9 mm, Pitch 0.95 mm; Supplier 1: Mouser; Supplier Part Number 1: N/A; Mounting Technology: Surface Mount; Code_JEDEC: MO178; ComponentLink1Description: Manufacturer URL; ComponentLink1URL: http://www.maximintegrated.com/; ComponentLink2Description: Datasheet; ComponentLink2URL: http://datasheets.maximintegrated.com/en/ds/MAX9938.pdf; ComponentLink3Description: Package Specification; ComponentLink3URL: http://pdfserv.maximintegrated.com/package_dwgs/21-0057.PDF
footprint MAXM-U5+2_N (SOT23, 5-Leads, Body 2.9x1.625mm, Pitch 0.95mm, IPC Medium Density)
footprint MAXM-U5+2_L (SOT23, 5-Leads, Body 2.9x1.625mm, Pitch 0.95mm, IPC High Density)
footprint MAXM-U5+2_M (SOT23, 5-Leads, Body 2.9x1.625mm, Pitch 0.95mm, IPC Low Density)
pins: 1 GND (power) "Ground", 2 GND (power) "Ground", 3 OUT (out) "Output", 4 RS- (in) "Load- Side Connection to External Sense Resistor", 5 RS+ (in) "Power-Side Connection to External Sense Resistor"

## MAX9938FEUK+T
designator U?
1 uA, 4-Bump, Precision Current-Sense Amplifier, 50 V / V Gain, -40 to 85 degC, 5-Pin SOT23 (U5+2), Pb-Free, Tape and Reel; PartNumber: MAX9938FEUK+T; Bi-Dir. Curr. Sense: No; Gain: 25 V/V, 50 V/V ,100 V/V ,200 V/V; DatasheetVersion: Rev. 6; PackageVersion: Rev. G, 04/2011; PackageReference: U5+2; PackageDescription: 5-Pin Small-Outline Transistor Package, Body 1.625 x 2.9 mm, Pitch 0.95 mm; Supplier 1: Digi-Key; Supplier Part Number 1: MAX9938FEUK+TTR-ND; Supplier 2: Digi-Key; Supplier Part Number 2: MAX9938FEUK+TCT-ND; Supplier 3: Digi-Key; Supplier Part Number 3: MAX9938FEUK+TDKR-ND; Supplier 4: Farnell; Supplier Part Number 4: 2071163; Supplier 5: Newark; Supplier Part Number 5: 01N6733; Supplier 6: Mouser; Supplier Part Number 6: 700-MAX9938FEUK+T; Mounting Technology: Surface Mount; Code_JEDEC: MO178; ComponentLink1Description: Manufacturer URL; ComponentLink1URL: http://www.maximintegrated.com/; ComponentLink2Description: Datasheet; ComponentLink2URL: http://datasheets.maximintegrated.com/en/ds/MAX9938.pdf; ComponentLink3Description: Package Specification; ComponentLink3URL: http://pdfserv.maximintegrated.com/package_dwgs/21-0057.PDF
footprint MAXM-U5+2_N (SOT23, 5-Leads, Body 2.9x1.625mm, Pitch 0.95mm, IPC Medium Density)
footprint MAXM-U5+2_L (SOT23, 5-Leads, Body 2.9x1.625mm, Pitch 0.95mm, IPC High Density)
footprint MAXM-U5+2_M (SOT23, 5-Leads, Body 2.9x1.625mm, Pitch 0.95mm, IPC Low Density)
pins: 1 GND (power) "Ground", 2 GND (power) "Ground", 3 OUT (out) "Output", 4 RS- (in) "Load- Side Connection to External Sense Resistor", 5 RS+ (in) "Power-Side Connection to External Sense Resistor"

## MAX9938HEBS+T
designator U?
1 uA, 4-Bump, Precision Current-Sense Amplifier, 100 V / V Gain, -40 to 85 degC, 4-Pin BGA (B4+1), Pb-Free, Tape and Reel; PartNumber: MAX9938HEBS+T; Bi-Dir. Curr. Sense: No; Gain: 25 V/V, 50 V/V ,100 V/V ,200 V/V; DatasheetVersion: Rev. 6; PackageVersion: Rev. I, 03/2011; PackageReference: B4+1; PackageDescription: 4-Pin Ultra Chip-Scale Package, Body 1 x 1 mm, Pitch 0.5 mm; Supplier 1: Digi-Key; Supplier Part Number 1: MAX9938HEBS+T-ND; Supplier 2: Mouser; Supplier Part Number 2: 700-MAX9938HEBS+T; Mounting Technology: Surface Mount; ComponentLink1Description: Manufacturer URL; ComponentLink1URL: http://www.maximintegrated.com/; ComponentLink2Description: Datasheet; ComponentLink2URL: http://datasheets.maximintegrated.com/en/ds/MAX9938.pdf; ComponentLink3Description: Package Specification; ComponentLink3URL: http://pdfserv.maximintegrated.com/package_dwgs/21-0117.PDF
footprint MAXM-B4+1 (BGA, 4-Balls, Body 1x1mm, Pitch 0.5mm)
pins: A1 RS+ (in) "External Sense Resistor Power-Side Connection", A2 RS- (in) "External Sense Resistor Load-Side Connection", B1 GND (power) "Ground", B2 OUT (out) "Output Voltage. VOUT is proportional to VSENSE = VRS+ - VRS-."

## MAX9938HEBS+TG45
designator U?
1 uA, 4-Bump, Precision Current-Sense Amplifier, 100 V / V Gain, -40 to 85 degC, 4-Pin BGA (B4+1), Pb-Free, Tape and Reel; PartNumber: MAX9938HEBS+TG45; Bi-Dir. Curr. Sense: No; Gain: 25 V/V, 50 V/V ,100 V/V ,200 V/V; DatasheetVersion: Rev. 6; PackageVersion: Rev. I, 03/2011; PackageReference: B4+1; PackageDescription: 4-Pin Ultra Chip-Scale Package, Body 1 x 1 mm, Pitch 0.5 mm; Supplier 1: Digi-Key; Supplier Part Number 1: MAX9938HEBS+TG45-ND; Supplier 2: Mouser; Supplier Part Number 2: 700-MAX9938HEBS+TG45; Mounting Technology: Surface Mount; ComponentLink1Description: Manufacturer URL; ComponentLink1URL: http://www.maximintegrated.com/; ComponentLink2Description: Datasheet; ComponentLink2URL: http://datasheets.maximintegrated.com/en/ds/MAX9938.pdf; ComponentLink3Description: Package Specification; ComponentLink3URL: http://pdfserv.maximintegrated.com/package_dwgs/21-0117.PDF
footprint MAXM-B4+1 (BGA, 4-Balls, Body 1x1mm, Pitch 0.5mm)
pins: A1 RS+ (in) "External Sense Resistor Power-Side Connection", A2 RS- (in) "External Sense Resistor Load-Side Connection", B1 GND (power) "Ground", B2 OUT (out) "Output Voltage. VOUT is proportional to VSENSE = VRS+ - VRS-."

## MAX9938HEUK+
designator U?
1 uA, 4-Bump, Precision Current-Sense Amplifier, 100 V / V Gain, -40 to 85 degC, 5-Pin SOT23 (U5+2), Pb-Free; PartNumber: MAX9938HEUK+; Bi-Dir. Curr. Sense: No; Gain: 25 V/V, 50 V/V ,100 V/V ,200 V/V; DatasheetVersion: Rev. 6; PackageVersion: Rev. G, 04/2011; PackageReference: U5+2; PackageDescription: 5-Pin Small-Outline Transistor Package, Body 1.625 x 2.9 mm, Pitch 0.95 mm; Supplier 1: Mouser; Supplier Part Number 1: N/A; Mounting Technology: Surface Mount; Code_JEDEC: MO178; ComponentLink1Description: Manufacturer URL; ComponentLink1URL: http://www.maximintegrated.com/; ComponentLink2Description: Datasheet; ComponentLink2URL: http://datasheets.maximintegrated.com/en/ds/MAX9938.pdf; ComponentLink3Description: Package Specification; ComponentLink3URL: http://pdfserv.maximintegrated.com/package_dwgs/21-0057.PDF
footprint MAXM-U5+2_N (SOT23, 5-Leads, Body 2.9x1.625mm, Pitch 0.95mm, IPC Medium Density)
footprint MAXM-U5+2_L (SOT23, 5-Leads, Body 2.9x1.625mm, Pitch 0.95mm, IPC High Density)
footprint MAXM-U5+2_M (SOT23, 5-Leads, Body 2.9x1.625mm, Pitch 0.95mm, IPC Low Density)
pins: 1 GND (power) "Ground", 2 GND (power) "Ground", 3 OUT (out) "Output", 4 RS- (in) "Load- Side Connection to External Sense Resistor", 5 RS+ (in) "Power-Side Connection to External Sense Resistor"

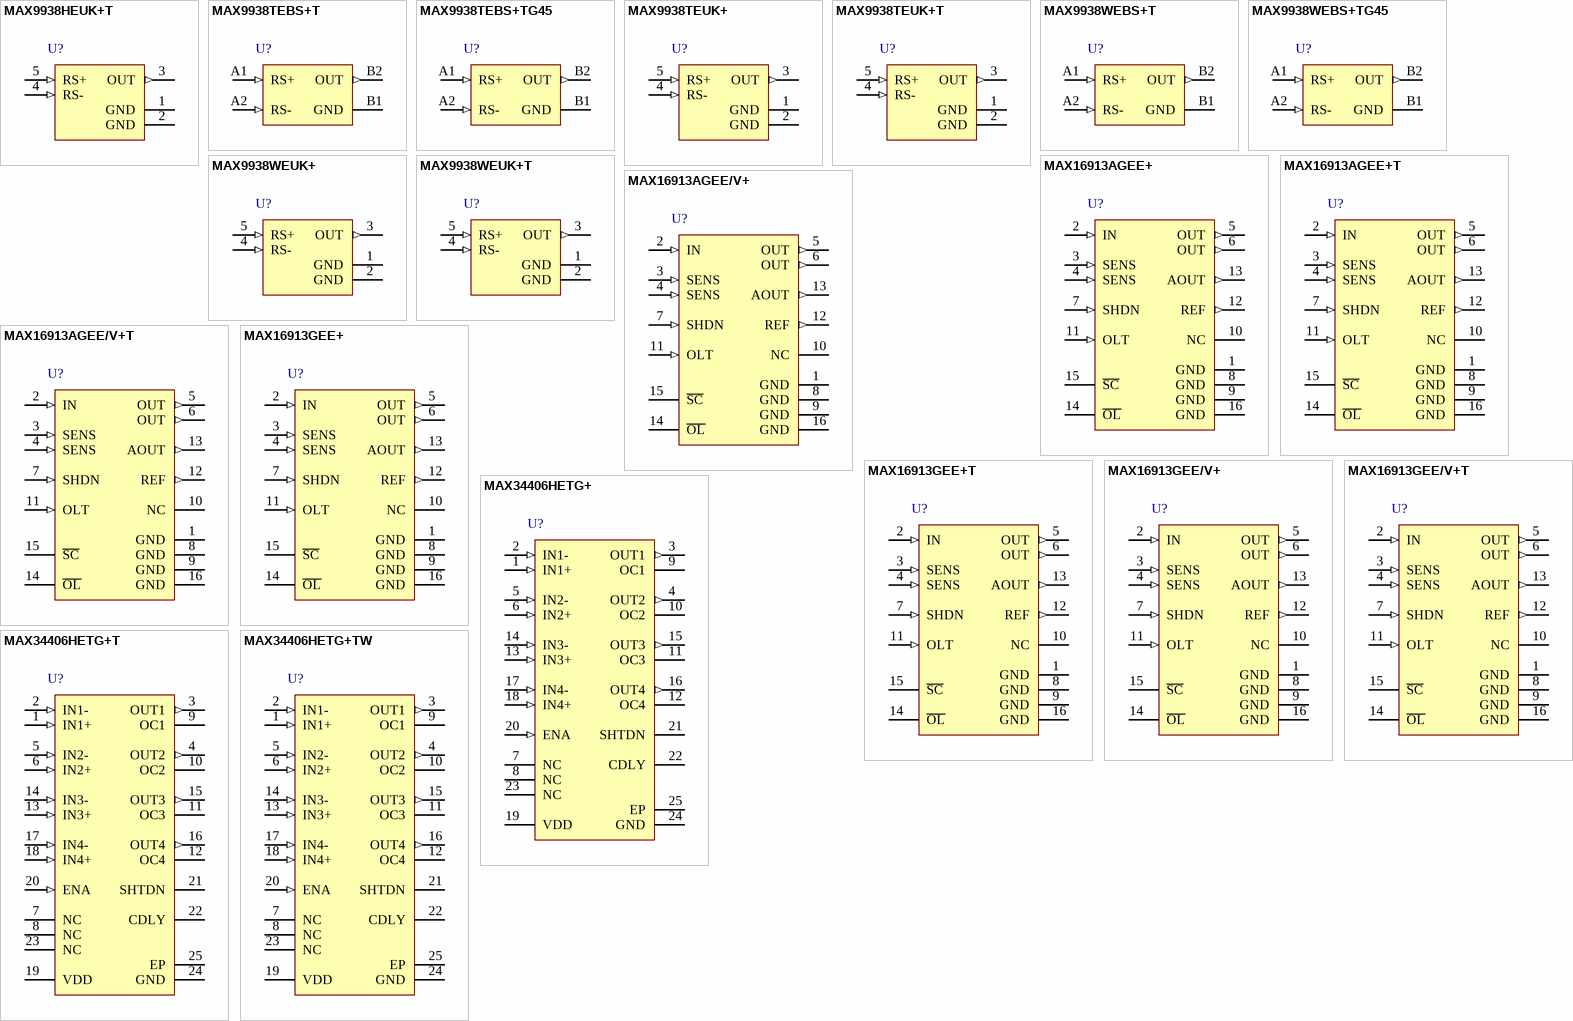
[diagram p10: symbols MAX9938HEUK+T to MAX34406HETG+TW]